# Altium schematic symbol library SCH - POWER - SWITCHMODE - TI TPS560200DBV.SchLib: 1 symbol
Pins are listed as number, name and electrical type; pins without a type are passive.

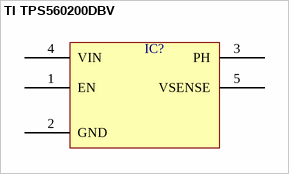
[diagram p0: symbol TI TPS560200DBV]

## TI TPS560200DBV
designator IC?  (value not drawn)
pins: 1 EN, 2 GND, 3 PH, 4 VIN, 5 VSENSE